# Altium footprint library 创意时钟.PcbLib: 25 footprints (part 2 of 2)
Each footprint in its own frame and in the unit in brackets; x right, y up, seen from the top. Pads: shape width x height; smd on the part's side, far side on the other; paste and mask are expansions set on the pad; w line width, h text height; cw(c..) or ccw(c..) is an arc to the next point about the centre after c.
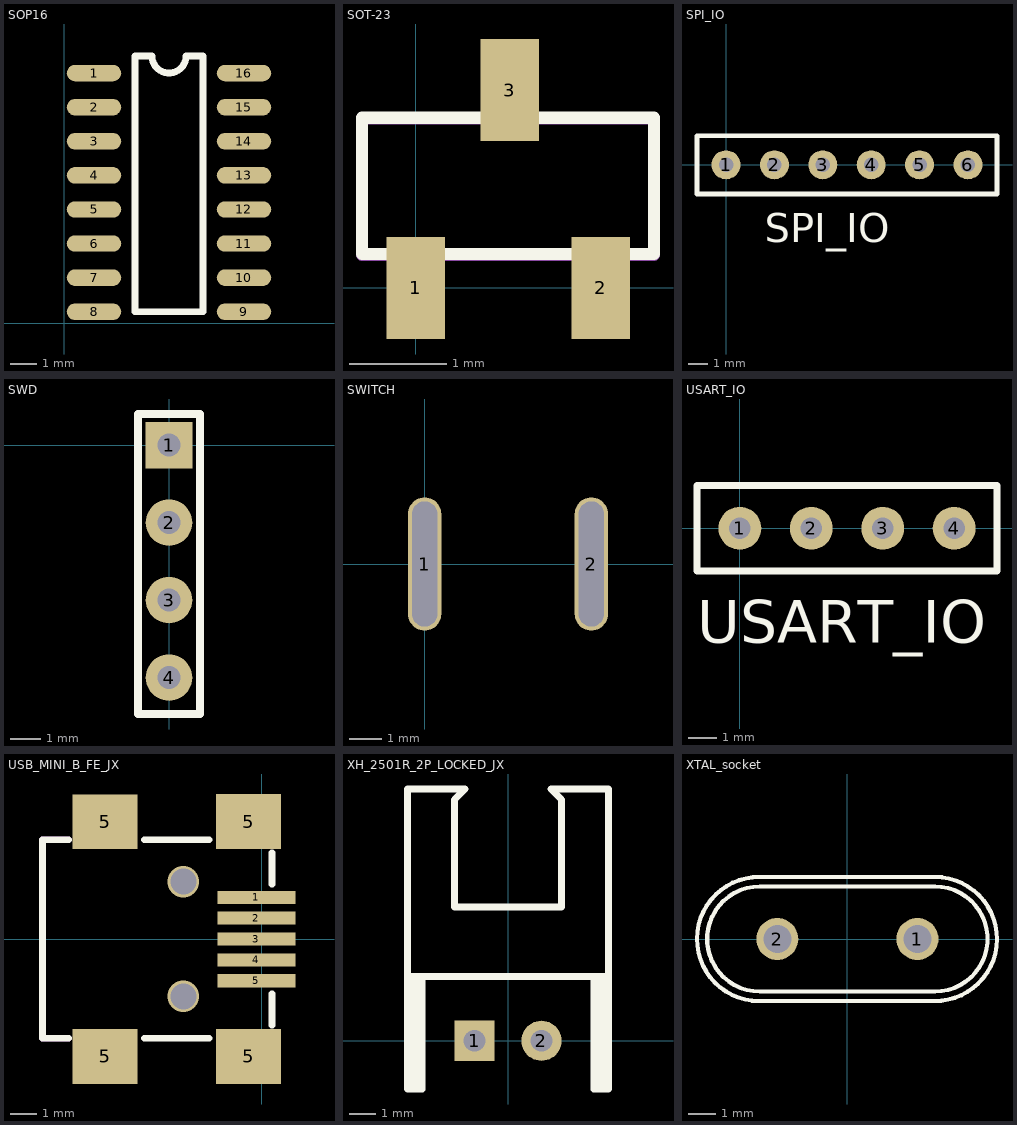
[diagram p1: the footprints below, top view; thin cyan lines are the x and y axes]

## SOP16 [mil]
pads (16):
  oval 80x24 smd: 1(44,367) 2(44,317) 3(44,267) 4(44,217) 5(44,167) 6(44,117) 7(44,67) 8(44,17) 9(264,17) 10(264,67) 11(264,117) 12(264,167) 13(264,217) 14(264,267) 15(264,317) 16(264,367)
Top Overlay:
  lines w10: 104,17 204,17 204,392 179,392 cw(c154,392) 129,392 104,392 104,17

## SOT-23 [mm]
pads (3):
  rect 0.6x1.05 smd: 1(0,0) 2(1.9,0) 3(0.965,2.032)
Top Overlay:
  lines w0.127: -0.553,0.348 2.447,0.348 2.447,1.748 -0.553,1.748 -0.553,0.348
Mechanical 1:
  lines w0.127: -0.554,0.342 2.446,0.342 2.446,1.742 -0.554,1.742 -0.554,0.342

## SPI_IO [mil]
pads (6):
  round 60 hole 30: 1(0,0) 2(100,0) 3(200,0) 4(300,0) 5(400,0) 6(500,0)
Top Overlay:
  lines w10: -60,-60 -60,60 560,60 560,-60 -60,-60
  text "SPI_IO" at 80,-160 h60

## SWD [mil]
pads (4):
  rect 60x60 hole 30: 1(0,0)
  round 60 hole 30: 2(0,-100) 3(0,-200) 4(0,-300)
Top Overlay:
  lines w10: -40,-347 40,-347 40,40 -40,40 -40,-347

## SWITCH [mil]
pads (2):
  oval 40x160 hole 30 slot 150 at 90 deg: 1(0,0) 2(200,0)

## USART_IO [mil]
pads (4):
  round 60 hole 30: 1(0,0) 2(100,0) 3(200,0) 4(300,0)
Top Overlay:
  lines w10: -60,-60 360,-60 360,60 -60,60 -60,-60
  text "USART_IO" at -60,-160 h60

## USB_MINI_B_FE_JX [mm]
pads (9):
  rect 3x0.5 smd: 1(-0.2,1.6) 2(-0.2,0.8) 3(-0.2,0) 4(-0.2,-0.8) 5(-0.2,-1.6)
  rect 2.5x2.1 smd: 5(-6,4.496) 5(-5.999,-4.501) 5(-0.5,4.501) 5(-0.498,-4.501)
via -3,2.2 diameter 1.2 hole 1
via -3,-2.2 diameter 1.2 hole 1
Top Overlay:
  lines w0.254: -7.4,-3.8 -8.4,-3.8 -8.4,3.8 -7.4,3.8 ; -4.5,-3.8 -2,-3.8 ; -4.5,3.8 -2,3.8 ; 0.4,-3.3 0.4,-2.1 ; 0.4,2.106 0.4,3.3
Mechanical 15:
  lines w0.254: -7.4,-3.8 -8.4,-3.8 -8.4,3.8 -7.4,3.8

## XH_2501R_2P_LOCKED_JX [mm]
pads (2):
  rect 1.5x1.5 hole 0.81: 1(-1.25,0)
  round 1.5 hole 0.81: 2(1.25,-0.001)
Top Overlay:
  lines w0.254: -3.75,2.4 3.75,2.4 ; -3.6,-1.8 -3.6,2.4 ; -3.4,-1.8 -3.4,2.4 ; -3.2,2.4 -3.2,-1.8 -3.75,-1.8 -3.75,9.4 -1.6,9.4 -2,9 -2,5 2,5 2,9 1.6,9.4 3.75,9.4 3.75,-1.8 3.2,-1.8 3.2,2.4 ; 3.4,-1.8 3.4,2.4 ; 3.6,-1.8 3.6,2.4

## XTAL_socket [mil]
height 74.8
pads (2):
  round 60 hole 40: 1(100,0) 2(-100,0)
Top Overlay:
  lines w6: -126,-88.58 cw(c-126,0) -125.09,88.58 125,88.58 cw(c125,0) 124.07,-88.58 -126,-88.58 ; -125,-75 cw(c-125,0) -125,75 125,75 cw(c125,0) 125,-75 -125,-75